# Altium integrated library TVS_Diodes.IntLib: 22 symbols
Pins are listed as number, name and electrical type; pins without a type are passive.

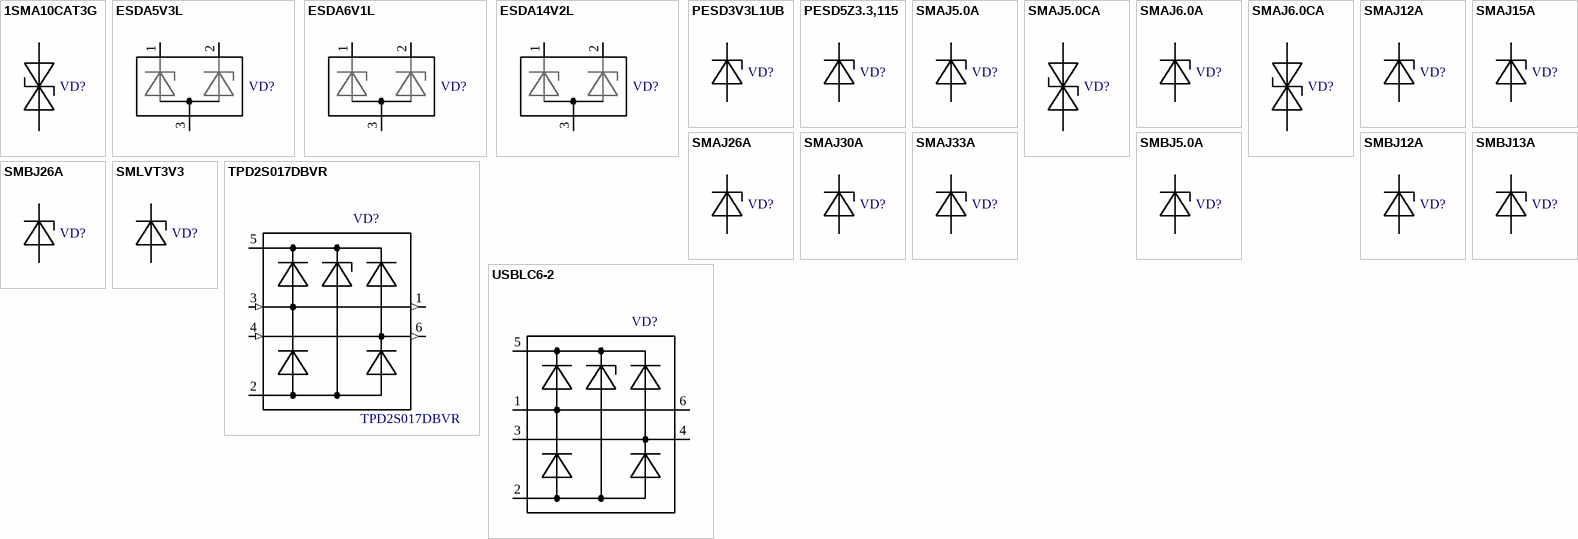
[diagram p0: symbols 1SMA10CAT3G to USBLC6-2]

## 1SMA10CAT3G
designator VD?  (value not drawn)
11.7Vr 400W 23.5A BiDirectional TVS; Manufacturer: Littelfuse; PartNumber: 1SMA10CAT3G; Vbr: 6.4V; 1Ccode: 18998; 1Cname: 1SMA10CAT3G ONS (1SMA10СА-Т,1SMA10СА); 1Cgroup: 01010101; Name: Супрессор 1SMA10CAT3G; 1CfullName: 1SMA10CAT3G ONS (1SMA10СА-Т,1SMA10СА); 1Carticle: 18998; Case: SMA; ComponentLink1Description: DatasheetLink; ComponentLink1URL: https://m.littelfuse.com/~/media/electronics/datasheets/tvs_diodes/littelfuse_tvs_diode_sz1smaxxca_datasheet.pdf.pdf
footprint SMA (DO-214AC)  w/o polarity (Molded Diode, 2-Leads, Body 4,30x2,40mm, IPC Low Density)
pins: 1, 2

## ESDA5V3L
designator VD?  (value not drawn)
DUAL TRANSIL ARRAY FOR ESD PROTECTION; Value: 5.3V
footprint SOT-23 (3-Leads, Body 2,90x2,45mm, Pitch 0,95mm, IPC Low Density)
pins: 1 K1, 2 K2, 3 A

## ESDA6V1L
designator VD?  (value not drawn)
DUAL TRANSIL ARRAY FOR ESD PROTECTION; Value: 6.1V
footprint SOT-23 (3-Leads, Body 2,90x2,45mm, Pitch 0,95mm, IPC Low Density)
pins: 1 K1, 2 K2, 3 A

## ESDA14V2L
designator VD?  (value not drawn)
DUAL TRANSIL ARRAY FOR ESD PROTECTION; Value: 14.2V
footprint SOT-23 (3-Leads, Body 2,90x2,45mm, Pitch 0,95mm, IPC Low Density)
pins: 1 K1, 2 K2, 3 A

## PESD3V3L1UB
designator VD?  (value not drawn)
Low capacitance unidirectional ESD protection diode; Manufacturer: Nexperia; Vbr: 5.6V; 1Ccode: М00027853; 1Cname: PESD3V3L1UB; 1Cgroup: 01010101; 1Carticle: 14125; Name: Диод защитный PESD3V3L1UB; 1CfullName: PESD3V3L1UB; PartNumber: PESD3V3L1UB; Case: SOD-523; ComponentLink1Description: DatasheetLink; ComponentLink1URL: https://assets.nexperia.com/documents/data-sheet/PESD3V3L1UB.pdf
footprint SOD-523 (SODFL, 2-Leads, Body 0,80x1,60mm, IPC Low Density)
pins: A, K

## PESD5Z3.3,115
designator VD?  (value not drawn)
3.3Vr 260W 20A UniDirectional TVS; Vbr: 5V; 1Ccode: *; 1Cname: *; 1CfullName: *; 1Cgroup: *; 1Carticle: *; Manufacturer: *; Name: *; PartNumber: *; Case: *; ComponentLink1Description: DatasheetLink; ComponentLink1URL: *
footprint SOD-523 (SODFL, 2-Leads, Body 0,80x1,60mm, IPC Low Density)
pins: A, K

## SMAJ5.0A
designator VD?  (value not drawn)
5Vr 400W 43.5A UniDirectional TVS; Vbr: 6.4V
footprint SMA (DO-214AC) (Molded Diode, 2-Leads, Body 4,30x2,40mm, IPC Low Density)
pins: A, K

## SMAJ5.0CA
designator VD?  (value not drawn)
5Vr 400W 43.5A BiDirectional TVS; Vbr: 6.4V; Manufacturer: *; Name: *; PartNumber: *; Case: *; ComponentLink1Description: DatasheetLink; ComponentLink1URL: *
footprint SMA (DO-214AC)  w/o polarity (Molded Diode, 2-Leads, Body 4,30x2,40mm, IPC Low Density)
pins: 1, 2

## SMAJ6.0A
designator VD?  (value not drawn)
6Vr 400W 38.8A UniDirectional TVS; Vbr: 6.67V
footprint SMA (DO-214AC) (Molded Diode, 2-Leads, Body 4,30x2,40mm, IPC Low Density)
pins: A, K

## SMAJ6.0CA
designator VD?  (value not drawn)
6Vr 400W 38.8A BiDirectional TVS; Vbr: 6.67V
footprint SMA (DO-214AC)  w/o polarity (Molded Diode, 2-Leads, Body 4,30x2,40mm, IPC Low Density)
pins: 1, 2

## SMAJ12A
designator VD?  (value not drawn)
12Vr 400W 20.1A UniDirectional TVS; Vbr: 13.3V
footprint SMA (DO-214AC) (Molded Diode, 2-Leads, Body 4,30x2,40mm, IPC Low Density)
pins: A, K

## SMAJ15A
designator VD?  (value not drawn)
15Vr 400W 16.4A UniDirectional TVS; Vbr: 16.7V
footprint SMA (DO-214AC) (Molded Diode, 2-Leads, Body 4,30x2,40mm, IPC Low Density)
pins: A, K

## SMAJ26A
designator VD?  (value not drawn)
26Vr 400W 9.5A UniDirectional TVS; Vbr: 28.9
footprint SMA (DO-214AC) (Molded Diode, 2-Leads, Body 4,30x2,40mm, IPC Low Density)
pins: A, K

## SMAJ30A
designator VD?  (value not drawn)
30Vr 400W 8.3A UniDirectional TVS; Vbr: 36.7
footprint SMA (DO-214AC) (Molded Diode, 2-Leads, Body 4,30x2,40mm, IPC Low Density)
pins: A, K

## SMAJ33A
designator VD?  (value not drawn)
33Vr 400W 7.5A UniDirectional TVS; Vbr: 36.7
footprint SMA (DO-214AC) (Molded Diode, 2-Leads, Body 4,30x2,40mm, IPC Low Density)
pins: A, K

## SMBJ5.0A
designator VD?  (value not drawn)
5Vr 600W 65.2A UniDirectional TVS; Vbr: 6.4V
footprint SMB (DO-214AA) (Molded Diode, 2-Leads, Body 4,31x3,62mm, IPC Medium Density)
pins: A, K

## SMBJ12A
designator VD?  (value not drawn)
12Vr 600W 30.2A UniDirectional TVS; Vbr: 13.3V
footprint SMB (DO-214AA) (Molded Diode, 2-Leads, Body 4,31x3,62mm, IPC Medium Density)
pins: A, K

## SMBJ13A
designator VD?  (value not drawn)
13Vr 600W 27.9A UniDirectional TVS; Vbr: 14.4V
footprint SMB (DO-214AA) (Molded Diode, 2-Leads, Body 4,31x3,62mm, IPC Medium Density)
pins: A, K

## SMBJ26A
designator VD?  (value not drawn)
26Vr 600W 14.3A UniDirectional TVS; Vbr: 28.9V
footprint SMB (DO-214AA) (Molded Diode, 2-Leads, Body 4,31x3,62mm, IPC Medium Density)
pins: A, K

## SMLVT3V3
designator VD?  (value not drawn)
3.3Vr 600W 100A UniDirectional TVS; Vbr: 4.1V
footprint SMB (DO-214AA) (Molded Diode, 2-Leads, Body 4,31x3,62mm, IPC Medium Density)
pins: A, K

## TPD2S017DBVR
designator VD?
Very low capacitance ESD protection; Manufacturer: Texas Instruments; Value: 5.3V; 1Ccode: М00027836; 1Cgroup: 01010102; 1Carticle: 16443; Name: Супрессор TPD2S017DBVR; 1Cname: TPD2S017DBVR; 1CfullName: TPD2S017DBVR; PartNumber: TPD2S017DBVR; Case: SOT-23-6; ComponentLink1Description: DatasheetLink; ComponentLink1URL: https://www.ti.com/lit/ds/symlink/tpd2s017.pdf
footprint SOT-23-6L (SOT23, 6-Leads, Body 2,92x2,80mm, Pitch 0,95mm, IPC Low Density)
pins: 1 Ch1_Out (out), 2 GND (power), 3 Ch1_In (in), 4 Ch2_In (in), 5 VBUS (power), 6 Ch2_Out (out)
1 alternate drawing of the same symbol

## USBLC6-2
designator VD?  (value not drawn)
Very low capacitance ESD protection; Value: 5.3V; 1Ccode: *; 1Cname: *; 1CfullName: *; 1Cgroup: *; 1Carticle: *; Manufacturer: *; Name: *; PartNumber: *; Case: *; ComponentLink1Description: DatasheetLink; ComponentLink1URL: *
footprint SOT-23-6L (SOT23, 6-Leads, Body 2,92x2,80mm, Pitch 0,95mm, IPC Low Density)
pins: 1 I/O1 (io), 2 GND (power), 3 I/O2 (io), 4 I/O2 (io), 5 VBUS (power), 6 I/O1 (io)
1 alternate drawing of the same symbol